# Altium schematic symbol library NL3333.SchLib: 1 symbol
Pins are listed as number, name and electrical type; pins without a type are passive.

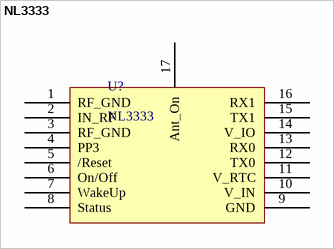
[diagram p0: symbol NL3333]

## NL3333
designator U?
GPS\GLONASS module
footprint NL3333
pins: 1 RF_GND, 2 IN_RF, 3 RF_GND, 4 PP3, 5 /Reset, 6 On/Off, 7 WakeUp, 8 Status, 9 GND, 10 V_IN, 11 V_RTC, 12 TX0, 13 RX0, 14 V_IO, 15 TX1, 16 RX1, 17 Ant_On